# EAGLE library part WE-FB_LT35XX/LT3748_EP13_750311856 (library Wurth_Elektronik_Passive_rev16b)
WE-FB Flyback Transformer LT35xx / LT3748 Characteristics Standard transformers for various output voltages currents available Easy design of custom power supply due to standard circuit and change of transformers and two components for feedback loop Isolation voltage up to 2.5 kV Applications Isolated power design Sensor interfaces Isolated telecom converters Power over Ethernet <http://katalog.we-online.de/media/images/eisos/UtFB_LT_MID_pf2.jpg> Details see: http://katalog.we-online.de/en/pbs/WE-FB_Linear? Updated 2015-04-03 2015 (C) Wurth Elektronik
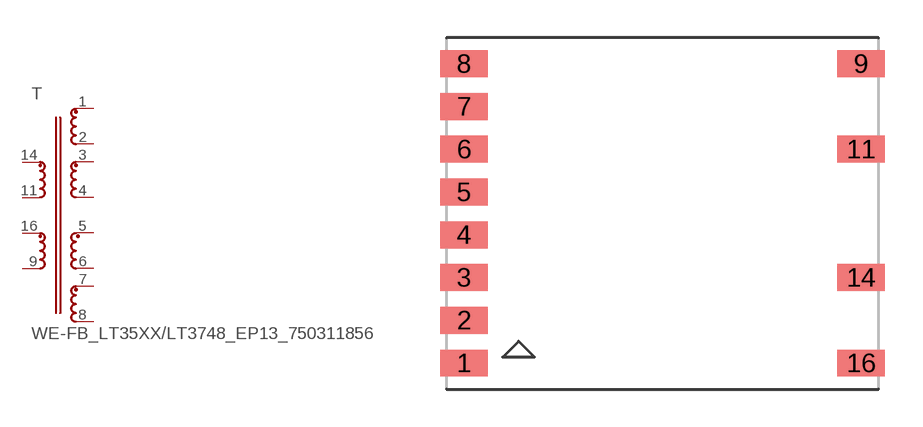
[diagram p87: symbol with the pads of WE-FB_EP13_DIMENSION2; footprint WE-FB_EP13_DIMENSION2]

Designator prefix T

## WE-FB_LT35XX/LT3748_EP13_750311856  [WE-FB_EP13_DIMENSION2]
1  2  pas
2  3  pas
3  4  pas
4  5  pas
5  6  pas
6  7  pas
7  8  pas
8  9  pas
9  10  pas
11  12  pas
14  1  pas
16  11  pas

## Footprint WE-FB_EP13_DIMENSION2 (pad centres in mm)
smd 1.88 x 1.07: 1 -7.885,-5.95; 2 -7.885,-4.25; 3 -7.885,-2.55; 4 -7.885,-0.85; 5 -7.885,0.85; 6 -7.885,2.55; 7 -7.885,4.25; 8 -7.885,5.95; 9 7.885,5.95; 11 7.885,2.55; 14 7.885,-2.55; 16 7.885,-5.95